# EAGLE library part SPARKFUN_M32 (library gb_usb_programmer)
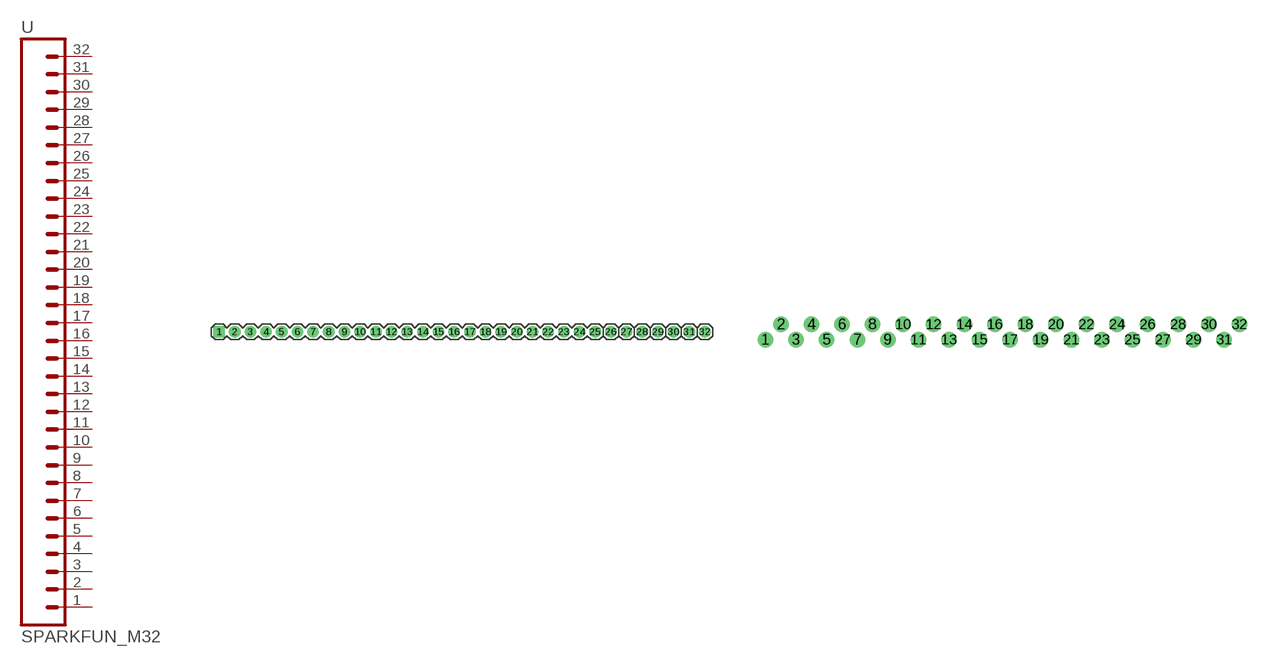
[diagram p0: symbol with the pads of SPARKFUN_1X32; footprints SPARKFUN_1X32, SPARKFUN_1X32_GB]

Designator prefix -

## SPARKFUN_M32  [SPARKFUN_1X32]
1  1  pas
2  2  pas
3  3  pas
4  4  pas
5  5  pas
6  6  pas
7  7  pas
8  8  pas
9  9  pas
10  10  pas
11  11  pas
12  12  pas
13  13  pas
14  14  pas
15  15  pas
16  16  pas
17  17  pas
18  18  pas
19  19  pas
20  20  pas
21  21  pas
22  22  pas
23  23  pas
24  24  pas
25  25  pas
26  26  pas
27  27  pas
28  28  pas
29  29  pas
30  30  pas
31  31  pas
32  32  pas

## SPARKFUN_M32GB  [SPARKFUN_1X32_GB]
Pads as for SPARKFUN_1X32

## SPARKFUN_M32MH  [SPARKFUN_1X32_M_H]
Pads as for SPARKFUN_1X32

## Footprint SPARKFUN_1X32 (pad centres in mm)
drill 1.016 pad 1.88 square: 1 0,0
drill 1.016 pad 1.88: 2 2.54,0; 3 5.08,0; 4 7.62,0; 5 10.16,0; 6 12.7,0; 7 15.24,0; 8 17.78,0; 9 20.32,0; 10 22.86,0; 11 25.4,0; 12 27.94,0; 13 30.48,0; 14 33.02,0; 15 35.56,0; 16 38.1,0; 17 40.64,0; 18 43.18,0; 19 45.72,0; 20 48.26,0; 21 50.8,0; 22 53.34,0; 23 55.88,0; 24 58.42,0; 25 60.96,0; 26 63.5,0; 27 66.04,0; 28 68.58,0; 29 71.12,0; 30 73.66,0; 31 76.2,0; 32 78.74,0

## Footprint SPARKFUN_1X32_GB (pad centres in mm)
drill 1.016 pad 1.422: 1 -1.5,-1.5; 2 0,0; 3 1.5,-1.5; 4 3,0; 5 4.5,-1.5; 6 6,0; 7 7.5,-1.5; 8 9,0; 9 10.5,-1.5; 10 12,0; 11 13.5,-1.5; 12 15,0; 13 16.5,-1.5; 14 18,0; 15 19.5,-1.5; 16 21,0; 17 22.5,-1.5; 18 24,0; 19 25.5,-1.5; 20 27,0; 21 28.5,-1.5; 22 30,0; 23 31.5,-1.5; 24 33,0; 25 34.5,-1.5; 26 36,0; 27 37.5,-1.5; 28 39,0; 29 40.5,-1.5; 30 42,0; 31 43.5,-1.5; 32 45,0

## Footprint SPARKFUN_1X32_M_H (pad centres in mm)
drill 1.016 pad 1.88: 1 0,0; 2 2.54,0; 3 5.08,0; 4 7.62,0; 5 10.16,0; 6 12.7,0; 7 15.24,0; 8 17.78,0; 9 20.32,0; 10 22.86,0; 11 25.4,0; 12 27.94,0; 13 30.48,0; 14 33.02,0; 15 35.56,0; 16 38.1,0; 17 40.64,0; 18 43.18,0; 19 45.72,0; 20 48.26,0; 21 50.8,0; 22 53.34,0; 23 55.88,0; 24 58.42,0; 25 60.96,0; 26 63.5,0; 27 66.04,0; 28 68.58,0; 29 71.12,0; 30 73.66,0; 31 76.2,0; 32 78.74,0